# Altium schematic symbol library SNP411-15.Schlib: 1 symbol
Pins are listed as number, name and electrical type; pins without a type are passive.

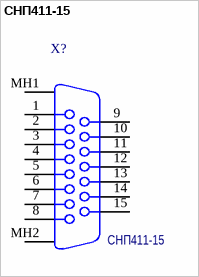
[diagram p0: symbol СНП411-15]

## СНП411-15
designator X?, comment Наименование: СНП411-15  (hidden comment: SNP411-15)
СНП411-15, распиновка со стороны платы; Назначение: Соединитель угловой на плату; Потребление, Вт: 0
footprint SNP411-15
pins: 1, 2, 3, 4, 5, 6, 7, 8, 9, 10, 11, 12, 13, 14, 15, MH1, MH2